# Altium footprint library techdev.PcbLib: 23 footprints (part 1 of 2)
Each footprint in its own frame and in the unit in brackets; x right, y up, seen from the top. Pads: shape width x height; smd on the part's side, far side on the other; paste and mask are expansions set on the pad; w line width, h text height; cw(c..) or ccw(c..) is an arc to the next point about the centre after c.
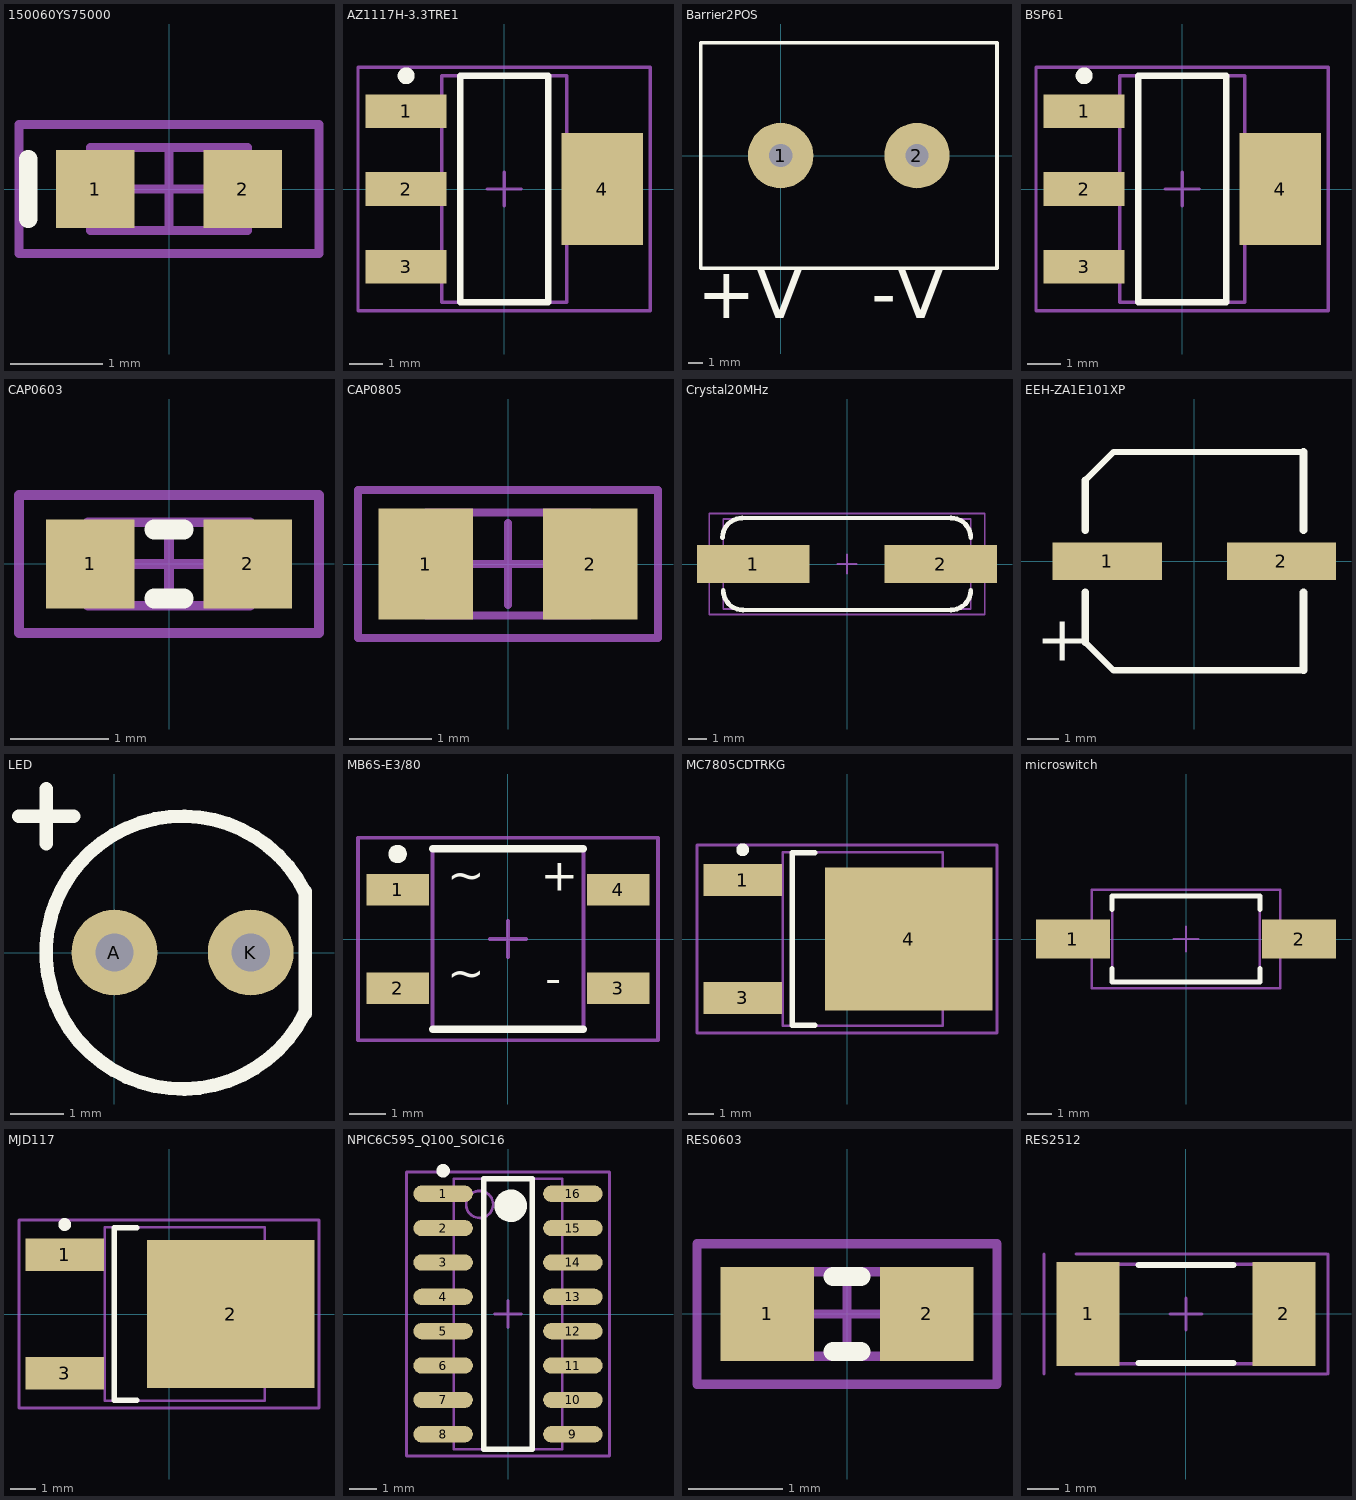
[diagram p0: the footprints below, top view; thin cyan lines are the x and y axes]

## 150060YS75000 [mm]
height 2.44
pads (2):
  rect 0.85x0.85 smd: 1(-0.8,0) 2(0.8,0)
Top Overlay:
  lines w0.2: -1.525,-0.325 -1.525,0.325
Mechanical 13:
  rectangle: -0.85,-0.45 -0.621,0.45
  lines w0.1: -0.85,-0.45 -0.85,0.45 0.85,0.45 0.85,-0.45 -0.85,-0.45
Mechanical 15:
  lines w0.1: -0.45,0 0.45,0 ; 0,-0.45 0,0.45 ; -1.625,-0.7 -1.625,0.7 1.625,0.7 1.625,-0.7 -1.625,-0.7
3D body: height 2.44, standoff 0, extent -0.85,-0.45 0.85,0.45

## AZ1117H-3.3TRE1 [mm] "Reguladores de tensión lineal LDO BJT HiCurr 3.3V at 1A"
height 1.8
pads (4):
  rect 2.4x1 smd: 1(-2.9,2.3) 2(-2.9,0) 3(-2.9,-2.3)
  rect 2.4x3.3 smd: 4(2.9,0)
Top Overlay:
  circle w0.25: c-2.9,3.35 r0.125
  lines w0.2: -1.3,-3.35 -1.3,3.35 1.3,3.35 1.3,-3.35 -1.3,-3.35
Mechanical 13:
  lines w0.1: -1.85,-3.35 -1.85,3.35 1.85,3.35 1.85,-3.35 -1.85,-3.35
Mechanical 15:
  lines w0.1: -0.5,0 0.5,0 ; 0,-0.5 0,0.5 ; -4.325,-3.6 -4.325,3.6 4.325,3.6 4.325,-3.6 -4.325,-3.6
3D body: height 1.8, standoff 0.15, extent -1.85,-3.35 1.85,3.35

## Barrier2POS [mil]
pads (2):
  round 180 hole 63.94: 1(0,0) 2(375,0)
Top Overlay:
  lines w10: -220,-310 595,-310 595,310 -220,310 -220,-310
  text "+V   -V" at -230,-494 h240

## BSP61 [mm] "SOT223, 4-Leads, Body 6.7x7.3mm (max), Pitch 2.30mm, IPC Medium Density"
height 1.8
pads (4):
  rect 2.4x1 smd: 1(-2.9,2.3) 2(-2.9,0) 3(-2.9,-2.3)
  rect 2.4x3.3 smd: 4(2.9,0)
Top Overlay:
  circle w0.25: c-2.9,3.35 r0.125
  lines w0.2: -1.3,-3.35 1.3,-3.35 1.3,3.35 -1.3,3.35 -1.3,-3.35
Mechanical 13:
  lines w0.1: -1.85,-3.35 1.85,-3.35 1.85,3.35 -1.85,3.35 -1.85,-3.35
Mechanical 15:
  lines w0.1: -0.5,0 0.5,0 ; 0,-0.5 0,0.5 ; -4.325,-3.6 4.325,-3.6 4.325,3.6 -4.325,3.6 -4.325,-3.6
3D body: height 1.8, standoff 0.1, extent -1.85,-3.35 1.85,3.35

## CAP0603 [mm] "Capacitores cerámicos de capas múltiples (MLCC) - SMD/SMT 0603 0.1uF 16volts X7R 5%"
height 0.85
pads (2):
  rect 0.9x0.9 smd: 1(-0.8,0) 2(0.8,0)
Top Overlay:
  lines w0.2: -0.15,-0.35 0.15,-0.35 ; -0.15,0.35 0.15,0.35
Mechanical 13:
  lines w0.1: -0.825,-0.425 -0.825,0.425 0.825,0.425 0.825,-0.425 -0.825,-0.425
Mechanical 15:
  lines w0.1: -0.425,0 0.425,0 ; 0,-0.425 0,0.425 ; -1.525,-0.7 -1.525,0.7 1.525,0.7 1.525,-0.7 -1.525,-0.7
3D body: height 0.85, standoff 0, extent -0.825,-0.425 0.825,0.425

## CAP0805 [mm]
height 4.57
pads (2):
  rect 1.15x1.35 smd: 1(-1,0) 2(1,0)
Mechanical 13:
  lines w0.1: -1,-0.625 1,-0.625 1,0.625 -1,0.625 -1,-0.625
Mechanical 15:
  lines w0.1: -0.5,0 0.5,0 ; 0,-0.5 0,0.5 ; -1.825,-0.9 1.825,-0.9 1.825,0.9 -1.825,0.9 -1.825,-0.9
3D body: height 4.57, standoff 0, extent -1,-0.625 1,0.625

## Crystal20MHz [mm]
height 4.3
pads (2):
  rect 6x2 smd: 1(-5,0) 2(5,0)
Top Overlay:
  lines w0.2: -5.588,2.45 5.55,2.45 ; -5.55,-2.45 5.547,-2.45
  lines w0.254: -6.641,1.4 cw(c-5.588,1.397) -5.588,2.45 ; -6.6,-1.4 ccw(c-5.547,-1.4) -5.55,-2.453 ; 5.547,-2.45 ccw(c5.547,-1.397) 6.6,-1.4 ; 5.55,2.453 cw(c5.547,1.4) 6.6,1.4
Mechanical 13:
  lines w0.1: -6.6,-2.4 6.6,-2.4 6.6,2.4 -6.6,2.4 -6.6,-2.4
Mechanical 15:
  lines w0.1: -0.5,0 0.5,0 ; 0,-0.5 0,0.5 ; -7.35,-2.7 7.35,-2.7 7.35,2.7 -7.35,2.7 -7.35,-2.7
3D body: height 4.3, standoff 0, extent -6.6,-2.4 6.6,2.4

## EEH-ZA1E101XP [mm] "EEH-ZA1E101XP"
pads (2):
  rect 3.5x1.2 smd: 1(-2.794,0) 2(2.794,0)
Top Overlay:
  lines w0.2: -3.5,-2.596 -2.596,-3.5 3.5,-3.5 ; -3.5,2.596 -2.596,3.5 3.5,3.5
  lines w0.254: -3.5,-2.596 -3.5,-1 ; -3.5,1 -3.5,2.596 ; 3.5,-3.5 3.5,-1 ; 3.5,1 3.5,3.5
  text "+" at -5.08,-3.683 h2.5

## LED [mm]
pads (2):
  round 1.6 hole 0.711: A(0,0) K(2.54,0)
Top Overlay:
  lines w0.254: -1.778,2.54 -0.762,2.54 ; -1.27,2.032 -1.27,2.286 -1.27,2.794 -1.27,3.048 ; 3.545,-1.137 cw(c1.27,0) 3.545,1.137 ; 3.556,-1.137 3.556,1.137

## MB6S-E3/80 [mm] "MB6S-E3/80"
height 2.9
pads (4):
  rect 1.7x0.85 smd: 1(-3,1.335) 2(-3,-1.335) 3(3,-1.335) 4(3,1.335)
Top Overlay:
  circle w0.25: c-3,2.31 r0.125
  lines w0.2: -2.05,-2.45 2.05,-2.45 ; -2.05,2.45 2.05,2.45
  text "~" at -1.651,1.016 h1.52
  text "~" at -1.651,-1.651 h1.52
  text "+" at 0.889,1.016 h1.52
  text "-" at 1.016,-1.778 h1.52
Mechanical 13:
  lines w0.1: -2.05,-2.475 -2.05,2.475 2.05,2.475 2.05,-2.475 -2.05,-2.475
Mechanical 15:
  lines w0.1: -0.5,0 0.5,0 ; 0,-0.5 0,0.5 ; -4.075,-2.75 -4.075,2.75 4.075,2.75 4.075,-2.75 -4.075,-2.75
3D body: height 2.9, standoff 0.2, extent -2.05,-2.475 2.05,2.475

## MC7805CDTRKG [mm] "MC7805CDTRKG"
height 2.38
pads (3):
  rect 3.05x1.25 smd: 1(-4.05,2.29) 3(-4.05,-2.29)
  rect 6.5x5.55 smd: 4(2.4,0)
Top Overlay:
  circle w0.25: c-4.05,3.465 r0.125
  lines w0.2: -1.25,-3.35 -2.125,-3.35 -2.125,3.35 -1.25,3.35
Mechanical 13:
  lines w0.1: -2.5,-3.375 -2.5,3.375 3.72,3.375 3.72,-3.375 -2.5,-3.375
Mechanical 15:
  lines w0.1: -0.5,0 0.5,0 ; 0,-0.5 0,0.5 ; -5.825,-3.65 -5.825,3.65 5.825,3.65 5.825,-3.65 -5.825,-3.65
3D body: height 2.38, standoff 0, extent -2.5,-3.375 3.72,3.375

## microswitch [mm]
height 4.57
pads (2):
  rect 3x1.6 smd: 1(-4.59,0) 2(4.59,0)
Top Overlay:
  lines w0.2: -3,-1.2 -3,-1.75 3,-1.75 3,-1.2 ; -3,1.2 -3,1.75 3,1.75 3,1.2
Mechanical 13:
  lines w0.1: -3,-1.75 -3,1.75 3,1.75 3,-1.75 -3,-1.75
Mechanical 15:
  lines w0.1: -0.5,0 0.5,0 ; 0,-0.5 0,0.5 ; -3.825,-2 -3.825,2 3.825,2 3.825,-2 -3.825,-2
3D body: height 4.57, standoff 0, extent -3,-1.75 3,1.75

## MJD117 [mm]
height 2.38
pads (3):
  rect 3.05x1.25 smd: 1(-4.05,2.3) 3(-4.05,-2.3)
  rect 6.5x5.75 smd: 2(2.4,0)
Top Overlay:
  circle w0.25: c-4.05,3.475 r0.125
  lines w0.2: -1.25,-3.35 -2.125,-3.35 -2.125,3.35 -1.25,3.35
Mechanical 13:
  lines w0.1: -2.5,-3.375 -2.5,3.375 3.72,3.375 3.72,-3.375 -2.5,-3.375
Mechanical 15:
  lines w0.1: -0.5,0 0.5,0 ; 0,-0.5 0,0.5 ; -5.825,-3.65 -5.825,3.65 5.825,3.65 5.825,-3.65 -5.825,-3.65
3D body: height 2.38, standoff 0, extent -2.5,-3.375 3.72,3.375

## NPIC6C595_Q100_SOIC16 [mm]
height 1.75
pads (16):
  oval 2.2x0.6 smd: 1(-2.4,4.445) 2(-2.4,3.175) 3(-2.4,1.905) 4(-2.4,0.635) 5(-2.4,-0.635) 6(-2.4,-1.905) 7(-2.4,-3.175) 8(-2.4,-4.445) 9(2.4,-4.445) 10(2.4,-3.175) 11(2.4,-1.905) 12(2.4,-0.635) 13(2.4,0.635) 14(2.4,1.905) 15(2.4,3.175) 16(2.4,4.445)
Top Overlay:
  circle w0.6: c0.1,4 r0.3
  circle w0.25: c-2.4,5.295 r0.125
  lines w0.2: -0.9,-5 0.9,-5 0.9,5 -0.9,5 -0.9,-5
Mechanical 13:
  circle w0.1: c-1.05,4.05 r0.5
  lines w0.1: -2,-5 2,-5 2,5 -2,5 -2,-5
Mechanical 15:
  lines w0.1: -0.5,0 0.5,0 ; 0,-0.5 0,0.5 ; -3.75,-5.25 3.75,-5.25 3.75,5.25 -3.75,5.25 -3.75,-5.25
3D body: height 1.75, standoff 0.25, extent -2,-5 2,5

## RES0603 [mm]
height 0.55
pads (2):
  rect 1x1 smd: 1(-0.85,0) 2(0.85,0)
Top Overlay:
  lines w0.2: -0.15,-0.4 0.15,-0.4 ; -0.15,0.4 0.15,0.4
Mechanical 13:
  lines w0.1: -0.9,-0.45 -0.9,0.45 0.9,0.45 0.9,-0.45 -0.9,-0.45
Mechanical 15:
  lines w0.1: -0.45,0 0.45,0 ; 0,-0.45 0,0.45 ; -1.6,-0.75 -1.6,0.75 1.6,0.75 1.6,-0.75 -1.6,-0.75
3D body: height 0.55, standoff 0, extent -0.9,-0.45 0.9,0.45

## RES2512 [mm]
height 0.7
pads (2):
  rect 2x3.3 smd: 1(-3.1,0) 2(3.1,0)
Top Overlay:
  lines w0.2: -1.5,-1.55 1.5,-1.55 ; -1.5,1.55 1.5,1.55
Mechanical 13:
  lines w0.1: -3.15,-1.575 -3.15,1.575 3.15,1.575 3.15,-1.575 -3.15,-1.575
Mechanical 15:
  lines w0.1: -4.5,-1.9 -4.5,1.9 ; -3.475,-1.9 4.445,-1.9 ; -3.475,1.9 4.445,1.9 ; -0.5,0 0.5,0 ; 0,-0.5 0,0.5 ; 4.5,-1.9 4.5,1.9
3D body: height 0.7, standoff 0, extent -3.15,-1.575 3.15,1.575